# Altium footprint library DG301-5.0-02P.PcbLib: 1 footprints
Each footprint in its own frame and in the unit in brackets; x right, y up, seen from the top. Pads: shape width x height; smd on the part's side, far side on the other; paste and mask are expansions set on the pad; w line width, h text height; cw(c..) or ccw(c..) is an arc to the next point about the centre after c.
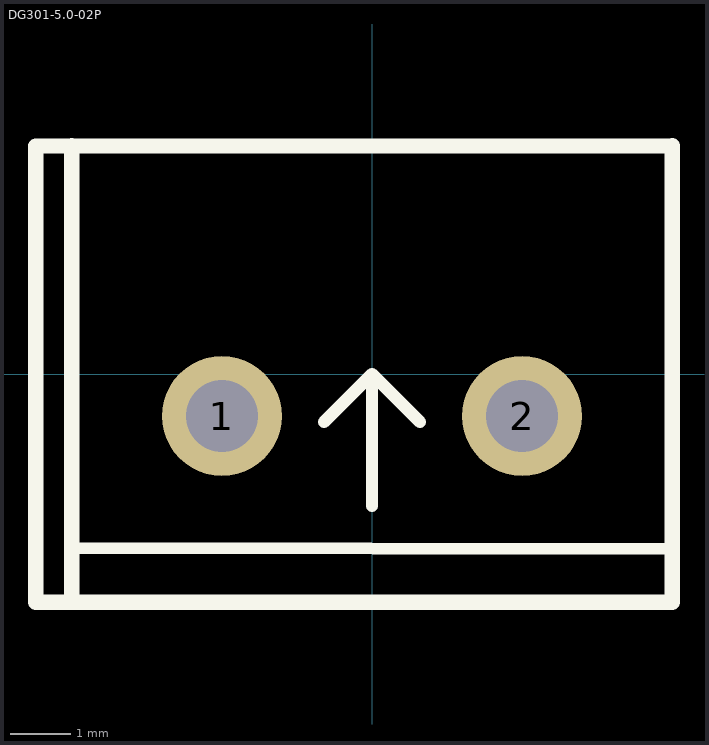
[diagram p0: the footprint, top view; thin cyan lines are the x and y axes]

## DG301-5.0-02P [mm]
pads (2):
  round 2 hole 1.2 paste-2539.97 mask+0.05: 1(-2.5,-0.7) 2(2.5,-0.7)
Top Overlay:
  lines w0.2: -5,-2.9 5,-2.912 ; -0.8,-0.8 0,0 ; 0,-2.2 0,0 ; 0.8,-0.8 0,0
  lines w0.254: -5,-3.8 -5,3.8 ; -5.6,-3.8 -5.6,3.8 5,3.8 5,-3.8 -5.6,-3.8
3D body "DG301-5_0-02P-12-00A(H).step": height 10, standoff -4.16, extent -5.6,-3.8 5,3.8